# Altium integrated library SN74HC14DR.IntLib: 1 symbol
Pins are listed as number, name and electrical type; pins without a type are passive.

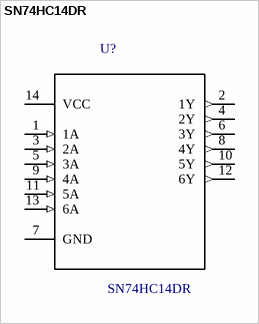
[diagram p0: symbol SN74HC14DR]

## SN74HC14DR
designator U?
Inverter Schmitt Trigger 6-Element CMOS 14-Pin SOIC T/R; MF: Texas Instruments; Price: None; Availability: Unavailable; MP: SN74HC14DR; Package: SOIC-14 Texas Instruments; SnapEDA_Link: https://www.snapeda.com/parts/SN74HC14DR/Texas%20Instruments/view-part/?ref=snap; Value: *
footprint *SOIC127P600X175-14N
pins: 1 1A (in), 2 1Y (out), 3 2A (in), 4 2Y (out), 5 3A (in), 6 3Y (out), 7 GND, 8 4Y (out), 9 4A (in), 10 5Y (out), 11 5A (in), 12 6Y (out), 13 6A (in), 14 VCC (power)